# EAGLE library part JPR-2X4 (library RS-extra-cons)
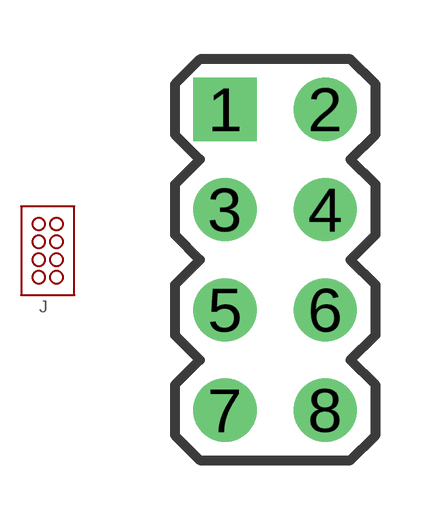
[diagram p9: symbol with the pads of HDR-2X4; footprint HDR-2X4]

Designator prefix J

## JPR-2X4  [HDR-2X4]
1  1
2  2
3  3
4  4
5  5
6  6
7  7
8  8

## Footprint HDR-2X4 (pad centres in mm)
drill 1.067 square: 1 -1.27,3.81
drill 1.067: 2 1.27,3.81; 3 -1.27,1.27; 4 1.27,1.27; 5 -1.27,-1.27; 6 1.27,-1.27; 7 -1.27,-3.81; 8 1.27,-3.81